# Altium footprint library MFSOP6.PcbLib: 1 footprints
Each footprint in its own frame and in the unit in brackets; x right, y up, seen from the top. Pads: shape width x height; smd on the part's side, far side on the other; paste and mask are expansions set on the pad; w line width, h text height; cw(c..) or ccw(c..) is an arc to the next point about the centre after c.
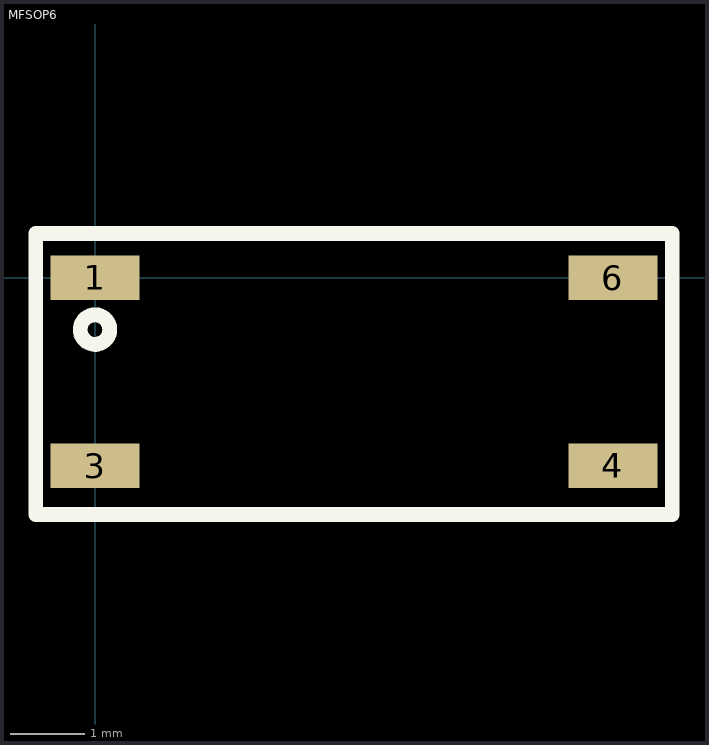
[diagram p0: the footprint, top view; thin cyan lines are the x and y axes]

## MFSOP6 [mm]
pads (4):
  rect 1.2x0.6 smd: 1(0,0) 3(0,-2.54) 4(7,-2.54) 6(7,0)
Top Overlay:
  circle w0.2: c0,-0.7 r0.2
  lines w0.2: -0.8,-3.2 -0.8,0.6 7.8,0.6 7.8,-3.2 -0.8,-3.2
3D body: height 2.1, standoff 0, extent 0.1,-3.1 7.1,0.5